# Altium footprint library 355715.PcbLib: 1 footprints
Each footprint in its own frame and in the unit in brackets; x right, y up, seen from the top. Pads: shape width x height; smd on the part's side, far side on the other; paste and mask are expansions set on the pad; w line width, h text height; cw(c..) or ccw(c..) is an arc to the next point about the centre after c.
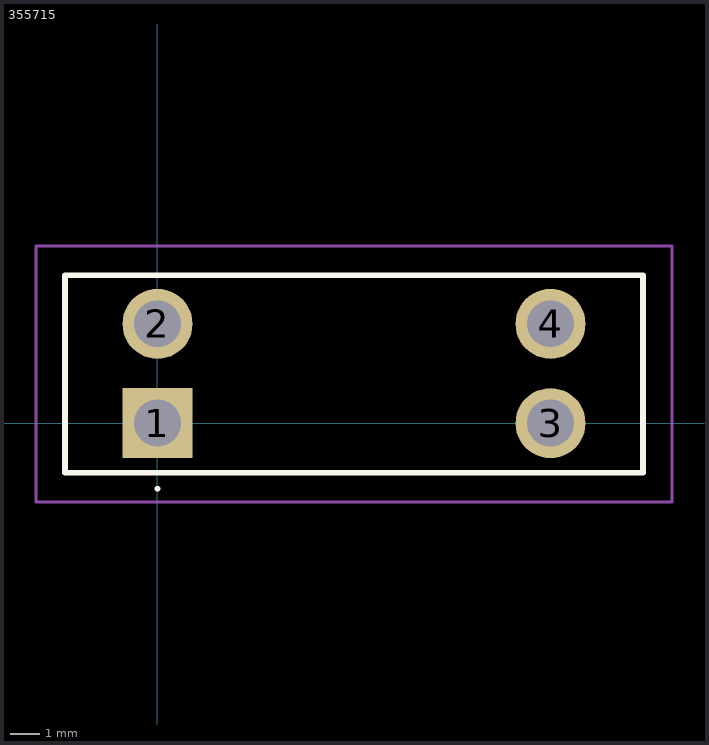
[diagram p0: the footprint, top view; thin cyan lines are the x and y axes]

## 355715 [mm]
pads (4):
  rect 2.4x2.4 hole 1.6: 1(0,0)
  round 2.4 hole 1.6: 2(0,3.4) 3(13.47,0) 4(13.47,3.4)
Top Overlay:
  lines w0.1: 0,-2.3 cw(c0,-2.25) 0,-2.2 ; 0,-2.3 0,-2.3 ; 0,-2.3 ccw(c0,-2.25) 0,-2.2 ; 0,-2.2 0,-2.2
  lines w0.2: -3.17,-1.7 16.64,-1.7 16.64,5.065 -3.17,5.065 -3.17,-1.7
Mechanical 15:
  lines w0.1: -3.17,-1.665 16.64,-1.665 16.64,5.065 -3.17,5.065 -3.17,-1.665
Mechanical 20:
  lines w0.1: -4.17,-2.7 17.64,-2.7 17.64,6.065 -4.17,6.065 -4.17,-2.7